# Altium integrated library CUSTOM.IntLib: 1 symbol
Pins are listed as number, name and electrical type; pins without a type are passive.

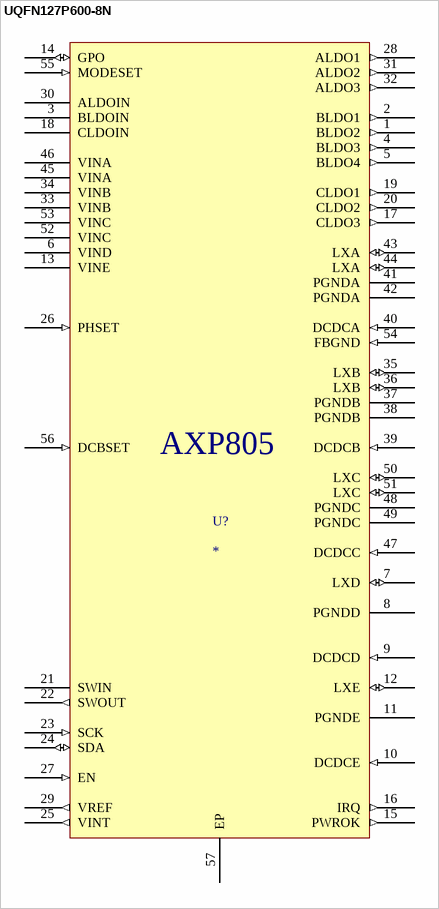
[diagram p0: symbol UQFN127P600-8N]

## UQFN127P600-8N
designator U?
footprint UQFN127P600-8N
pins: 1 BLDO2 (out) "Output pin of BLDO2", 2 BLDO1 (out) "Output pin of BLDO1", 3 BLDOIN (power) "BLDOs input source", 4 BLDO3 (out) "Output pin of BLDO3", 5 BLDO4 (out) "Output pin of BLDO4", 6 VIND (power) "DCDCD input source", 7 LXD (io) "Inductor pin for DCDCD", 8 PGNDD "NMOS GND for DCDCD", 9 DCDCD (in) "Feedback pin for DCDCD", 10 DCDCE (in) "Feedback pin for DCDCE", 11 PGNDE "NMOS GND for DCDCE", 12 LXE (io) "Inductor pin for DCDCE", 13 VINE (power) "DCDCE input source", 14 GPO (io) "GPO of Wakeup pin by REG35", 15 PWROK (out) "Power good indication output", 16 IRQ (out) "IRQ output", 17 CLDO3 (out) "Output pin of CLDO3", 18 CLDOIN (power) "CLDOs input source", 19 CLDO1 (out) "Output pin of CLDO1", 20 CLDO2 (out) "Output pin of CLDO2", 21 SWIN (power) "Switch input source", 22 SWOUT (out) "Switch Output pin", 23 SCK (in) "Clock pin for serial interface. Connected to IO power by 2.2K resistor while use TWSI", 24 SDA (io) "Data pin for serial interface. Connected to IO power by 2.2K resistor while use TWSI", 25 VINT (out) "Internal logic power, 1.8V", 26 PHSET (in) "Set DCDCA/B/C work mode (lonely/Dual-phase/Tri-phase)", 27 EN (in) "Enable pin for PMIC in master/slave mode. Or PWRON pin in self-work mode.", 28 ALDO1 (out) "Output pin of ALDO1", 29 VREF (out) "Internal reference voltage", 30 ALDOIN (power) "ALDOs input source", 31 ALDO2 (out) "Output pin of ALDO2", 32 ALDO3 (out) "Output pin of ALDO3", 33 VINB (power) "DCDCB input source", 34 VINB (power) "DCDCB input source", 35 LXB (io) "Inductor pin for DCDCB", 36 LXB (io) "Inductor pin for DCDCB", 37 PGNDB "NMOS GND for DCDCB", 38 PGNDB "NMOS GND for DCDCB", 39 DCDCB (in) "Feedback pin for DCDCB", 40 DCDCA (in) "Feedback pin for DCDCA", 41 PGNDA "NMOS GND for DCDCA", 42 PGNDA "NMOS GND for DCDCA", 43 LXA (io) "Inductor pin for DCDCA", 44 LXA (io) "Inductor pin for DCDCA", 45 VINA (power) "DCDCA input source", 46 VINA (power) "DCDCA input source", 47 DCDCC (in) "Feedback pin for DCDCC", 48 PGNDC "NMOS GND for DCDCC", 49 PGNDC "NMOS GND for DCDCC", 50 LXC (io) "Inductor pin for DCDCC", 51 LXC (io) "Inductor pin for DCDCC", 52 VINC (power) "DCDCC input source", 53 VINC (power) "DCDCC input source", 54 FBGND (in) "Feedback minus pin for DCDCA", 55 MODESET (in) "Set work mode for PMIC (GND: Slave mode; VINT: Master mode; Floating: Self-work mode)", 56 DCBSET (in) "Set default output voltage for DCDCB", 57 EP "Exposed Pad, connected to system GND"
text: AXP805